# Altium footprint library Quadruped.PcbLib: 6 footprints
Each footprint in its own frame and in the unit in brackets; x right, y up, seen from the top. Pads: shape width x height; smd on the part's side, far side on the other; paste and mask are expansions set on the pad; w line width, h text height; cw(c..) or ccw(c..) is an arc to the next point about the centre after c.
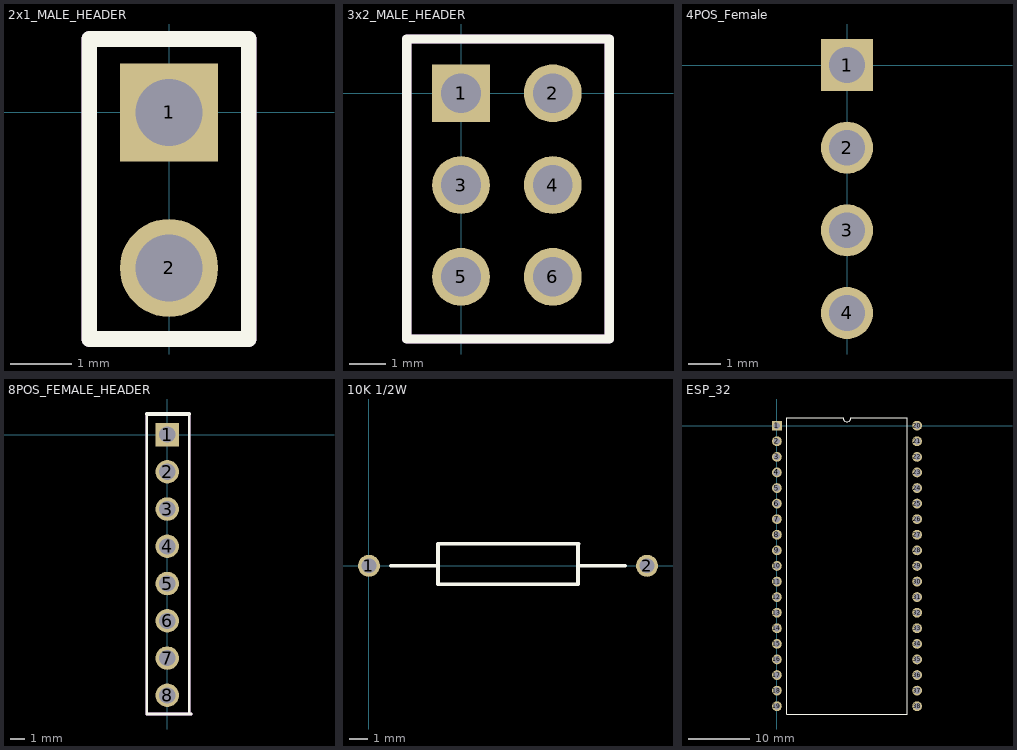
[diagram p0: the footprints below, top view; thin cyan lines are the x and y axes]

## 2x1_MALE_HEADER [mm]
pads (2):
  rect 1.6x1.6 hole 1.1: 1(0,0)
  round 1.6 hole 1.1: 2(0,-2.54)
Top Overlay:
  lines w0.254: -1.3,-3.7 -1.3,1.2 1.3,1.2 1.3,-3.7 -1.3,-3.7
Mechanical 1:
  lines w0.254: -1.3,-3.7 -1.3,1.2 1.3,1.2 1.3,-3.7 -1.3,-3.7
3D body "User Library-Header1x2.STEP": height 8.45, standoff -2.53, extent -1.3,-3.84 1.24,1.24

## 3x2_MALE_HEADER [mm]
pads (6):
  rect 1.6x1.6 hole 1.1: 1(0,0)
  round 1.6 hole 1.1: 2(2.54,0) 3(0,-2.54) 4(2.54,-2.54) 5(0,-5.08) 6(2.54,-5.08)
Top Overlay:
  lines w0.254: -1.5,-6.8 -1.5,1.5 4.1,1.5 4.1,-6.8 -1.5,-6.8
Mechanical 1:
  lines w0.254: -1.5,-6.8 -1.5,1.5 4.1,1.5 4.1,-6.8 -1.5,-6.8
  text ".Designator" at -6.146,-3.038 h1.52
3D body "User Library-1x3 TH Pitch 2_54mm.STEP": height 9.21, standoff -3.49, extent 1.3,-6.31 3.84,1.31
3D body "User Library-1x3 TH Pitch 2_54mm.STEP": height 9.21, standoff -3.49, extent -1.27,-6.35 1.27,1.27

## 4POS_Female [mm]
pads (4):
  rect 1.6x1.6 hole 1.1: 1(0,0)
  round 1.6 hole 1.1: 2(0,-2.54) 3(0,-5.08) 4(0,-7.62)

## 8POS_FEMALE_HEADER [mm]
pads (8):
  rect 1.6x1.6 hole 1.1: 1(0,0)
  round 1.6 hole 1.1: 2(0,-2.54) 3(0,-5.08) 4(0,-7.62) 5(0,-10.16) 6(0,-12.7) 7(0,-15.24) 8(0,-17.78)
Top Overlay:
  lines w0.2: -1.4,1.4 -1.4,-19.05 1.635,-19.05 ; 1.5,-19.02 1.5,1.4
  lines w0.254: -1.4,1.4 1.5,1.4
Mechanical 1:
  lines w0.2: -1.4,1.4 -1.4,-19.05 1.635,-19.05 ; 1.5,-19.02 1.5,1.4
  lines w0.254: -1.4,1.4 1.5,1.4
3D body "PPTC041LFBN-RC--3DModel-STEP-56544.STEP": height 8.52, standoff -3.19, extent -1.24,-19.268 1.3,-8.6
3D body "PPTC041LFBN-RC--3DModel-STEP-56544.STEP": height 8.52, standoff -3.19, extent -1.24,-9.334 1.3,1.334

## 10K 1/2W [mm]
pads (2):
  round 1.2 hole 0.8: 1(0,0) 2(15.2,0)
Top Overlay:
  lines w0.2: 1.2,0 3.775,0 ; 3.775,1.2 3.775,0 ; 3.8,1.2 11.45,1.2 ; 11.425,0 14,0 ; 11.425,1.2 11.425,-1 3.775,-1 3.775,0

## ESP_32 [mm]
pads (38):
  rect 1.6x1.6 hole 1.1: 1(0,0)
  round 1.6 hole 1.1: 2(0,-2.54) 3(0,-5.08) 4(0,-7.62) 5(0,-10.16) 6(0,-12.7) 7(0,-15.24) 8(0,-17.78) 9(0,-20.32) 10(0,-22.86) 11(0,-25.4) 12(0,-27.94) 13(0,-30.48) 14(0,-33.02) 15(0,-35.56) 16(0,-38.1) 17(0,-40.64) 18(0,-43.18) 19(0,-45.72) 20(22.86,0) 21(22.86,-2.54) 22(22.86,-5.08) 23(22.86,-7.62) 24(22.86,-10.16) 25(22.86,-12.7) 26(22.86,-15.24) 27(22.86,-17.78) 28(22.86,-20.32) 29(22.86,-22.86) 30(22.86,-25.4) 31(22.86,-27.94) 32(22.86,-30.48) 33(22.86,-33.02) 34(22.86,-35.56) 35(22.86,-38.1) 36(22.86,-40.64) 37(22.86,-43.18) 38(22.86,-45.72)
Top Overlay:
  lines w0.2: 1.635,-46.99 1.635,1.27 10.795,1.27 ccw(c11.43,1.27) 12.065,1.27 21.225,1.27 21.225,-46.99 1.635,-46.99
3D body "PPTC151LFBN-RC--3DModel-STEP-56544.STEP": height 8.52, standoff -3.19, extent 21.59,-37.084 24.13,1.524
3D body "PPTC151LFBN-RC--3DModel-STEP-56544.STEP": height 8.52, standoff -3.19, extent -1.27,-37.084 1.27,1.524
3D body "PPTC041LFBN-RC--3DModel-STEP-56544.STEP": height 8.52, standoff -3.19, extent 21.56,-47.734 24.1,-37.066
3D body "PPTC041LFBN-RC--3DModel-STEP-56544.STEP": height 8.52, standoff -3.19, extent -1.24,-47.734 1.3,-37.066